# EAGLE library part 27SF512 (library bt_memory)
SST 27SF512 EEPROM The SST27SF512/010/020 are a 64K x8 CMOS, Many-Time Programmable (MTP) low cost flash, manufactured with SST’s proprietary, high performance SuperFlash technology. The split-gate cell design and thick oxide tunneling injector attain better reliability and manufacturability compared with alternate approaches. These MTP devices can be electrically erased and programmed at least 1000 times using an external programmer with a 12V power supply. They have to be erased prior to programming. datasheet.pdf <http://static.moates.net/zips/27SF512.pdf>
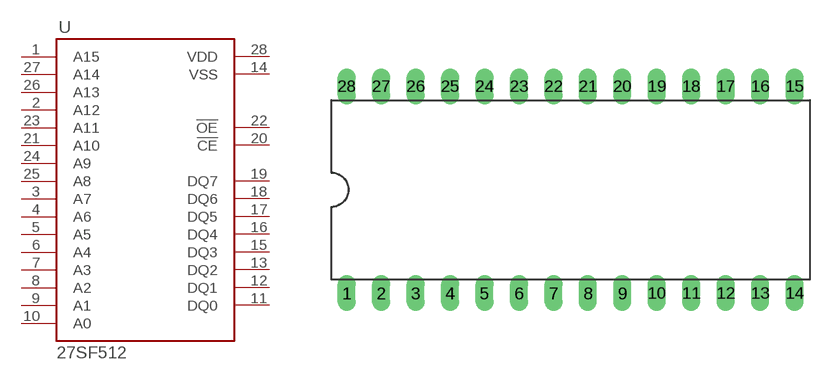
[diagram p2: symbol with the pads of DIL28-6; footprint DIL28-6]

Designator prefix U

## 27SF512  [DIL28-6]
1  A15
2  A12
3  A7
4  A6
5  A5
6  A4
7  A3
8  A2
9  A1
10  A0
11  DQ0
12  DQ1
13  DQ2
14  VSS
15  DQ3
16  DQ4
17  DQ5
18  DQ6
19  DQ7
20  !CE
21  A10
22  !OE
23  A11
24  A9
25  A8
26  A13
27  A14
28  VDD

## Footprint DIL28-6 (pad centres in mm)
Dual In Line Package 0.6 inch
drill 0.813 long: 1 -16.51,-7.62; 2 -13.97,-7.62; 3 -11.43,-7.62; 4 -8.89,-7.62; 5 -6.35,-7.62; 6 -3.81,-7.62; 7 -1.27,-7.62; 8 1.27,-7.62; 9 3.81,-7.62; 10 6.35,-7.62; 11 8.89,-7.62; 12 11.43,-7.62; 13 13.97,-7.62; 14 16.51,-7.62; 15 16.51,7.62; 16 13.97,7.62; 17 11.43,7.62; 18 8.89,7.62; 19 6.35,7.62; 20 3.81,7.62; 21 1.27,7.62; 22 -1.27,7.62; 23 -3.81,7.62; 24 -6.35,7.62; 25 -8.89,7.62; 26 -11.43,7.62; 27 -13.97,7.62; 28 -16.51,7.62